# Altium footprint library con-weidmueller-sl35.PCBLIB: 184 footprints (part 4 of 12)
Each footprint in its own frame and in the unit in brackets; x right, y up, seen from the top. Pads: shape width x height; smd on the part's side, far side on the other; paste and mask are expansions set on the pad; w line width, h text height; cw(c..) or ccw(c..) is an arc to the next point about the centre after c.
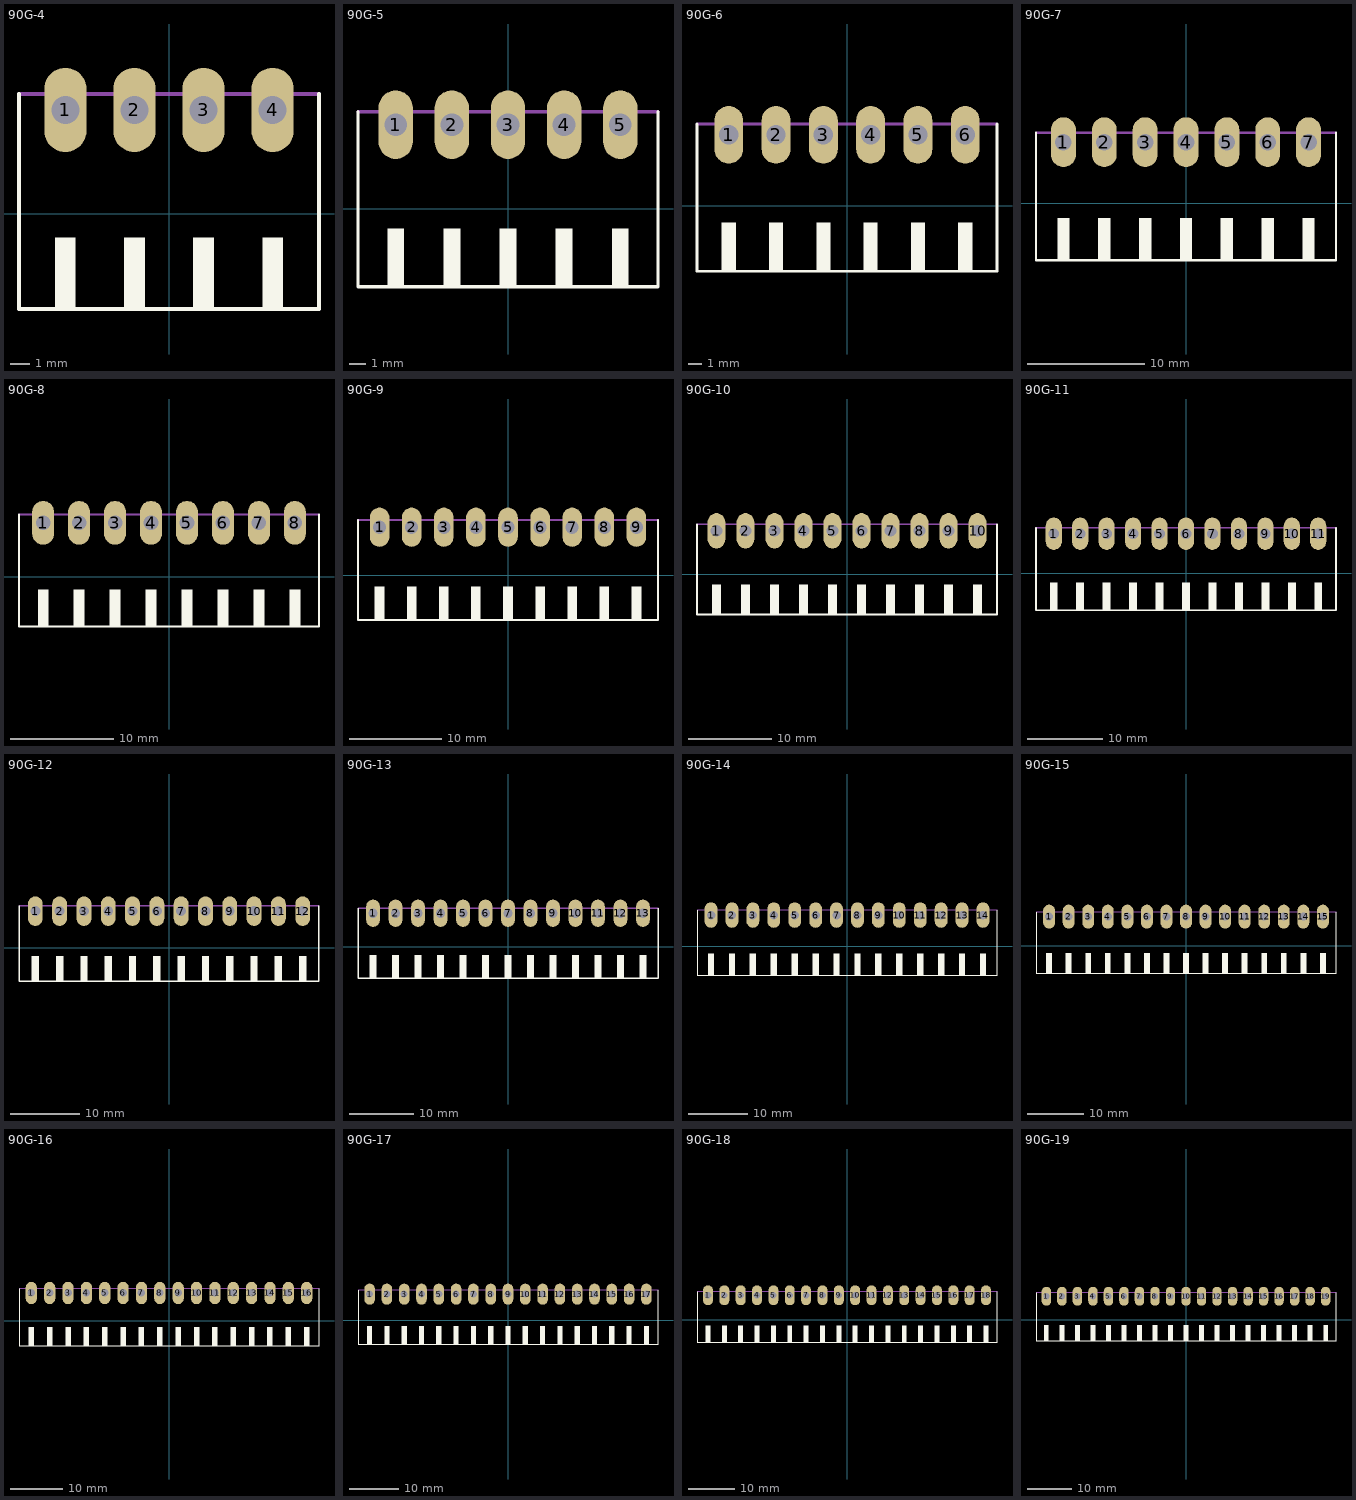
[diagram p3: the footprints below, top view; thin cyan lines are the x and y axes]

## 90G-4 [mil]
pads (4):
  oval 84x168 hole 56: 1(-206.69,206.69) 2(-68.9,206.69) 3(68.9,206.69) 4(206.69,206.69)
Top Overlay:
  rectangle: -227.36,-192.91 -186.02,-48.23
  rectangle: -89.57,-192.91 -48.23,-48.23
  rectangle: 48.23,-192.91 89.57,-48.23
  rectangle: 186.02,-192.91 227.36,-48.23
  lines w8: -299.21,238.19 -299.21,-190.94 299.21,-190.94 299.21,238.19
Mechanical 16:
  lines w8: -299.21,238.19 299.21,238.19

## 90G-5 [mil]
pads (5):
  oval 84x168 hole 56: 1(-275.59,206.69) 2(-137.8,206.69) 3(0,206.69) 4(137.8,206.69) 5(275.59,206.69)
Top Overlay:
  rectangle: -296.26,-192.91 -254.92,-48.23
  rectangle: -158.46,-192.91 -117.13,-48.23
  rectangle: -20.67,-192.91 20.67,-48.23
  rectangle: 117.13,-192.91 158.46,-48.23
  rectangle: 254.92,-192.91 296.26,-48.23
  lines w8: -368.11,238.19 -368.11,-190.94 368.11,-190.94 368.11,238.19
Mechanical 16:
  lines w8: -368.11,238.19 368.11,238.19

## 90G-6 [mil]
pads (6):
  oval 84x168 hole 56: 1(-344.49,206.69) 2(-206.69,206.69) 3(-68.9,206.69) 4(68.9,206.69) 5(206.69,206.69) 6(344.49,206.69)
Top Overlay:
  rectangle: -365.16,-192.91 -323.82,-48.23
  rectangle: -227.36,-192.91 -186.02,-48.23
  rectangle: -89.57,-192.91 -48.23,-48.23
  rectangle: 48.23,-192.91 89.57,-48.23
  rectangle: 186.02,-192.91 227.36,-48.23
  rectangle: 323.82,-192.91 365.16,-48.23
  lines w8: -437.01,238.19 -437.01,-190.94 437.01,-190.94 437.01,238.19
Mechanical 16:
  lines w8: -437.01,238.19 437.01,238.19

## 90G-7 [mil]
pads (7):
  oval 84x168 hole 56: 1(-413.39,206.69) 2(-275.59,206.69) 3(-137.8,206.69) 4(0,206.69) 5(137.8,206.69) 6(275.59,206.69) 7(413.39,206.69)
Top Overlay:
  rectangle: -434.06,-192.91 -392.72,-48.23
  rectangle: -296.26,-192.91 -254.92,-48.23
  rectangle: -158.46,-192.91 -117.13,-48.23
  rectangle: -20.67,-192.91 20.67,-48.23
  rectangle: 117.13,-192.91 158.46,-48.23
  rectangle: 254.92,-192.91 296.26,-48.23
  rectangle: 392.72,-192.91 434.06,-48.23
  lines w8: -505.91,238.19 -505.91,-190.94 505.91,-190.94 505.91,238.19
Mechanical 16:
  lines w8: -505.91,238.19 505.91,238.19

## 90G-8 [mil]
pads (8):
  oval 84x168 hole 56: 1(-482.28,206.69) 2(-344.49,206.69) 3(-206.69,206.69) 4(-68.9,206.69) 5(68.9,206.69) 6(206.69,206.69) 7(344.49,206.69) 8(482.28,206.69)
Top Overlay:
  rectangle: -502.95,-192.91 -461.61,-48.23
  rectangle: -365.16,-192.91 -323.82,-48.23
  rectangle: -227.36,-192.91 -186.02,-48.23
  rectangle: -89.57,-192.91 -48.23,-48.23
  rectangle: 48.23,-192.91 89.57,-48.23
  rectangle: 186.02,-192.91 227.36,-48.23
  rectangle: 323.82,-192.91 365.16,-48.23
  rectangle: 461.61,-192.91 502.95,-48.23
  lines w8: -574.8,238.19 -574.8,-190.94 574.8,-190.94 574.8,238.19
Mechanical 16:
  lines w8: -574.8,238.19 574.8,238.19

## 90G-9 [mil]
pads (9):
  oval 84x168 hole 56: 1(-551.18,206.69) 2(-413.39,206.69) 3(-275.59,206.69) 4(-137.8,206.69) 5(0,206.69) 6(137.8,206.69) 7(275.59,206.69) 8(413.39,206.69) 9(551.18,206.69)
Top Overlay:
  rectangle: -571.85,-192.91 -530.51,-48.23
  rectangle: -434.06,-192.91 -392.72,-48.23
  rectangle: -296.26,-192.91 -254.92,-48.23
  rectangle: -158.46,-192.91 -117.13,-48.23
  rectangle: -20.67,-192.91 20.67,-48.23
  rectangle: 117.13,-192.91 158.46,-48.23
  rectangle: 254.92,-192.91 296.26,-48.23
  rectangle: 392.72,-192.91 434.06,-48.23
  rectangle: 530.51,-192.91 571.85,-48.23
  lines w8: -643.7,238.19 -643.7,-190.94 643.7,-190.94 643.7,238.19
Mechanical 16:
  lines w8: -643.7,238.19 643.7,238.19

## 90G-10 [mil]
pads (10):
  oval 84x168 hole 56: 1(-620.08,206.69) 2(-482.28,206.69) 3(-344.49,206.69) 4(-206.69,206.69) 5(-68.9,206.69) 6(68.9,206.69) 7(206.69,206.69) 8(344.49,206.69) 9(482.28,206.69) 10(620.08,206.69)
Top Overlay:
  rectangle: -640.75,-192.91 -599.41,-48.23
  rectangle: -502.95,-192.91 -461.61,-48.23
  rectangle: -365.16,-192.91 -323.82,-48.23
  rectangle: -227.36,-192.91 -186.02,-48.23
  rectangle: -89.57,-192.91 -48.23,-48.23
  rectangle: 48.23,-192.91 89.57,-48.23
  rectangle: 186.02,-192.91 227.36,-48.23
  rectangle: 323.82,-192.91 365.16,-48.23
  rectangle: 461.61,-192.91 502.95,-48.23
  rectangle: 599.41,-192.91 640.75,-48.23
  lines w8: -712.6,238.19 -712.6,-190.94 712.6,-190.94 712.6,238.19
Mechanical 16:
  lines w8: -712.6,238.19 712.6,238.19

## 90G-11 [mil]
pads (11):
  oval 84x168 hole 56: 1(-688.98,206.69) 2(-551.18,206.69) 3(-413.39,206.69) 4(-275.59,206.69) 5(-137.8,206.69) 6(0,206.69) 7(137.8,206.69) 8(275.59,206.69) 9(413.39,206.69) 10(551.18,206.69) 11(688.98,206.69)
Top Overlay:
  rectangle: -709.65,-192.91 -668.31,-48.23
  rectangle: -571.85,-192.91 -530.51,-48.23
  rectangle: -434.06,-192.91 -392.72,-48.23
  rectangle: -296.26,-192.91 -254.92,-48.23
  rectangle: -158.46,-192.91 -117.13,-48.23
  rectangle: -20.67,-192.91 20.67,-48.23
  rectangle: 117.13,-192.91 158.46,-48.23
  rectangle: 254.92,-192.91 296.26,-48.23
  rectangle: 392.72,-192.91 434.06,-48.23
  rectangle: 530.51,-192.91 571.85,-48.23
  rectangle: 668.31,-192.91 709.65,-48.23
  lines w8: -781.5,238.19 -781.5,-190.94 781.5,-190.94 781.5,238.19
Mechanical 16:
  lines w8: -781.5,238.19 781.5,238.19

## 90G-12 [mil]
pads (12):
  oval 84x168 hole 56: 1(-757.87,206.69) 2(-620.08,206.69) 3(-482.28,206.69) 4(-344.49,206.69) 5(-206.69,206.69) 6(-68.9,206.69) 7(68.9,206.69) 8(206.69,206.69) 9(344.49,206.69) 10(482.28,206.69) 11(620.08,206.69) 12(757.87,206.69)
Top Overlay:
  rectangle: -778.54,-192.91 -737.2,-48.23
  rectangle: -640.75,-192.91 -599.41,-48.23
  rectangle: -502.95,-192.91 -461.61,-48.23
  rectangle: -365.16,-192.91 -323.82,-48.23
  rectangle: -227.36,-192.91 -186.02,-48.23
  rectangle: -89.57,-192.91 -48.23,-48.23
  rectangle: 48.23,-192.91 89.57,-48.23
  rectangle: 186.02,-192.91 227.36,-48.23
  rectangle: 323.82,-192.91 365.16,-48.23
  rectangle: 461.61,-192.91 502.95,-48.23
  rectangle: 599.41,-192.91 640.75,-48.23
  rectangle: 737.2,-192.91 778.54,-48.23
  lines w8: -850.39,238.19 -850.39,-190.94 850.39,-190.94 850.39,238.19
Mechanical 16:
  lines w8: -850.39,238.19 850.39,238.19

## 90G-13 [mil]
pads (13):
  oval 84x168 hole 56: 1(-826.77,206.69) 2(-688.98,206.69) 3(-551.18,206.69) 4(-413.39,206.69) 5(-275.59,206.69) 6(-137.8,206.69) 7(0,206.69) 8(137.8,206.69) 9(275.59,206.69) 10(413.39,206.69) 11(551.18,206.69) 12(688.98,206.69) 13(826.77,206.69)
Top Overlay:
  rectangle: -847.44,-192.91 -806.1,-48.23
  rectangle: -709.65,-192.91 -668.31,-48.23
  rectangle: -571.85,-192.91 -530.51,-48.23
  rectangle: -434.06,-192.91 -392.72,-48.23
  rectangle: -296.26,-192.91 -254.92,-48.23
  rectangle: -158.46,-192.91 -117.13,-48.23
  rectangle: -20.67,-192.91 20.67,-48.23
  rectangle: 117.13,-192.91 158.46,-48.23
  rectangle: 254.92,-192.91 296.26,-48.23
  rectangle: 392.72,-192.91 434.06,-48.23
  rectangle: 530.51,-192.91 571.85,-48.23
  rectangle: 668.31,-192.91 709.65,-48.23
  rectangle: 806.1,-192.91 847.44,-48.23
  lines w8: -919.29,238.19 -919.29,-190.94 919.29,-190.94 919.29,238.19
Mechanical 16:
  lines w8: -919.29,238.19 919.29,238.19

## 90G-14 [mil]
pads (14):
  oval 84x168 hole 56: 1(-895.67,206.69) 2(-757.87,206.69) 3(-620.08,206.69) 4(-482.28,206.69) 5(-344.49,206.69) 6(-206.69,206.69) 7(-68.9,206.69) 8(68.9,206.69) 9(206.69,206.69) 10(344.49,206.69) 11(482.28,206.69) 12(620.08,206.69) 13(757.87,206.69) 14(895.67,206.69)
Top Overlay:
  rectangle: -916.34,-192.91 -875,-48.23
  rectangle: -778.54,-192.91 -737.2,-48.23
  rectangle: -640.75,-192.91 -599.41,-48.23
  rectangle: -502.95,-192.91 -461.61,-48.23
  rectangle: -365.16,-192.91 -323.82,-48.23
  rectangle: -227.36,-192.91 -186.02,-48.23
  rectangle: -89.57,-192.91 -48.23,-48.23
  rectangle: 48.23,-192.91 89.57,-48.23
  rectangle: 186.02,-192.91 227.36,-48.23
  rectangle: 323.82,-192.91 365.16,-48.23
  rectangle: 461.61,-192.91 502.95,-48.23
  rectangle: 599.41,-192.91 640.75,-48.23
  rectangle: 737.2,-192.91 778.54,-48.23
  rectangle: 875,-192.91 916.34,-48.23
  lines w8: -988.19,238.19 -988.19,-190.94 988.19,-190.94 988.19,238.19
Mechanical 16:
  lines w8: -988.19,238.19 988.19,238.19

## 90G-15 [mil]
pads (15):
  oval 84x168 hole 56: 1(-964.57,206.69) 2(-826.77,206.69) 3(-688.98,206.69) 4(-551.18,206.69) 5(-413.39,206.69) 6(-275.59,206.69) 7(-137.8,206.69) 8(0,206.69) 9(137.8,206.69) 10(275.59,206.69) 11(413.39,206.69) 12(551.18,206.69) 13(688.98,206.69) 14(826.77,206.69) 15(964.57,206.69)
Top Overlay:
  rectangle: -985.24,-192.91 -943.9,-48.23
  rectangle: -847.44,-192.91 -806.1,-48.23
  rectangle: -709.65,-192.91 -668.31,-48.23
  rectangle: -571.85,-192.91 -530.51,-48.23
  rectangle: -434.06,-192.91 -392.72,-48.23
  rectangle: -296.26,-192.91 -254.92,-48.23
  rectangle: -158.46,-192.91 -117.13,-48.23
  rectangle: -20.67,-192.91 20.67,-48.23
  rectangle: 117.13,-192.91 158.46,-48.23
  rectangle: 254.92,-192.91 296.26,-48.23
  rectangle: 392.72,-192.91 434.06,-48.23
  rectangle: 530.51,-192.91 571.85,-48.23
  rectangle: 668.31,-192.91 709.65,-48.23
  rectangle: 806.1,-192.91 847.44,-48.23
  rectangle: 943.9,-192.91 985.24,-48.23
  lines w8: -1057.09,238.19 -1057.09,-190.94 1057.09,-190.94 1057.09,238.19
Mechanical 16:
  lines w8: -1057.09,238.19 1057.09,238.19

## 90G-16 [mil]
pads (16):
  oval 84x168 hole 56: 1(-1033.46,206.69) 2(-895.67,206.69) 3(-757.87,206.69) 4(-620.08,206.69) 5(-482.28,206.69) 6(-344.49,206.69) 7(-206.69,206.69) 8(-68.9,206.69) 9(68.9,206.69) 10(206.69,206.69) 11(344.49,206.69) 12(482.28,206.69) 13(620.08,206.69) 14(757.87,206.69) 15(895.67,206.69) 16(1033.46,206.69)
Top Overlay:
  rectangle: -1054.13,-192.91 -1012.8,-48.23
  rectangle: -916.34,-192.91 -875,-48.23
  rectangle: -778.54,-192.91 -737.2,-48.23
  rectangle: -640.75,-192.91 -599.41,-48.23
  rectangle: -502.95,-192.91 -461.61,-48.23
  rectangle: -365.16,-192.91 -323.82,-48.23
  rectangle: -227.36,-192.91 -186.02,-48.23
  rectangle: -89.57,-192.91 -48.23,-48.23
  rectangle: 48.23,-192.91 89.57,-48.23
  rectangle: 186.02,-192.91 227.36,-48.23
  rectangle: 323.82,-192.91 365.16,-48.23
  rectangle: 461.61,-192.91 502.95,-48.23
  rectangle: 599.41,-192.91 640.75,-48.23
  rectangle: 737.2,-192.91 778.54,-48.23
  rectangle: 875,-192.91 916.34,-48.23
  rectangle: 1012.8,-192.91 1054.13,-48.23
  lines w8: -1125.98,238.19 -1125.98,-190.94 1125.98,-190.94 1125.98,238.19
Mechanical 16:
  lines w8: -1125.98,238.19 1125.98,238.19

## 90G-17 [mil]
pads (17):
  oval 84x168 hole 56: 1(-1102.36,206.69) 2(-964.57,206.69) 3(-826.77,206.69) 4(-688.98,206.69) 5(-551.18,206.69) 6(-413.39,206.69) 7(-275.59,206.69) 8(-137.8,206.69) 9(0,206.69) 10(137.8,206.69) 11(275.59,206.69) 12(413.39,206.69) 13(551.18,206.69) 14(688.98,206.69) 15(826.77,206.69) 16(964.57,206.69) 17(1102.36,206.69)
Top Overlay:
  rectangle: -1123.03,-192.91 -1081.69,-48.23
  rectangle: -985.24,-192.91 -943.9,-48.23
  rectangle: -847.44,-192.91 -806.1,-48.23
  rectangle: -709.65,-192.91 -668.31,-48.23
  rectangle: -571.85,-192.91 -530.51,-48.23
  rectangle: -434.06,-192.91 -392.72,-48.23
  rectangle: -296.26,-192.91 -254.92,-48.23
  rectangle: -158.46,-192.91 -117.13,-48.23
  rectangle: -20.67,-192.91 20.67,-48.23
  rectangle: 117.13,-192.91 158.46,-48.23
  rectangle: 254.92,-192.91 296.26,-48.23
  rectangle: 392.72,-192.91 434.06,-48.23
  rectangle: 530.51,-192.91 571.85,-48.23
  rectangle: 668.31,-192.91 709.65,-48.23
  rectangle: 806.1,-192.91 847.44,-48.23
  rectangle: 943.9,-192.91 985.24,-48.23
  rectangle: 1081.69,-192.91 1123.03,-48.23
  lines w8: -1194.88,238.19 -1194.88,-190.94 1194.88,-190.94 1194.88,238.19
Mechanical 16:
  lines w8: -1194.88,238.19 1194.88,238.19

## 90G-18 [mil]
pads (18):
  oval 84x168 hole 56: 1(-1171.26,206.69) 2(-1033.46,206.69) 3(-895.67,206.69) 4(-757.87,206.69) 5(-620.08,206.69) 6(-482.28,206.69) 7(-344.49,206.69) 8(-206.69,206.69) 9(-68.9,206.69) 10(68.9,206.69) 11(206.69,206.69) 12(344.49,206.69) 13(482.28,206.69) 14(620.08,206.69) 15(757.87,206.69) 16(895.67,206.69) 17(1033.46,206.69) 18(1171.26,206.69)
Top Overlay:
  rectangle: -1191.93,-192.91 -1150.59,-48.23
  rectangle: -1054.13,-192.91 -1012.8,-48.23
  rectangle: -916.34,-192.91 -875,-48.23
  rectangle: -778.54,-192.91 -737.2,-48.23
  rectangle: -640.75,-192.91 -599.41,-48.23
  rectangle: -502.95,-192.91 -461.61,-48.23
  rectangle: -365.16,-192.91 -323.82,-48.23
  rectangle: -227.36,-192.91 -186.02,-48.23
  rectangle: -89.57,-192.91 -48.23,-48.23
  rectangle: 48.23,-192.91 89.57,-48.23
  rectangle: 186.02,-192.91 227.36,-48.23
  rectangle: 323.82,-192.91 365.16,-48.23
  rectangle: 461.61,-192.91 502.95,-48.23
  rectangle: 599.41,-192.91 640.75,-48.23
  rectangle: 737.2,-192.91 778.54,-48.23
  rectangle: 875,-192.91 916.34,-48.23
  rectangle: 1012.8,-192.91 1054.13,-48.23
  rectangle: 1150.59,-192.91 1191.93,-48.23
  lines w8: -1263.78,238.19 -1263.78,-190.94 1263.78,-190.94 1263.78,238.19
Mechanical 16:
  lines w8: -1263.78,238.19 1263.78,238.19

## 90G-19 [mil]
pads (19):
  oval 84x168 hole 56: 1(-1240.16,206.69) 2(-1102.36,206.69) 3(-964.57,206.69) 4(-826.77,206.69) 5(-688.98,206.69) 6(-551.18,206.69) 7(-413.39,206.69) 8(-275.59,206.69) 9(-137.8,206.69) 10(0,206.69) 11(137.8,206.69) 12(275.59,206.69) 13(413.39,206.69) 14(551.18,206.69) 15(688.98,206.69) 16(826.77,206.69) 17(964.57,206.69) 18(1102.36,206.69) 19(1240.16,206.69)
Top Overlay:
  rectangle: -1260.83,-192.91 -1219.49,-48.23
  rectangle: -1123.03,-192.91 -1081.69,-48.23
  rectangle: -985.24,-192.91 -943.9,-48.23
  rectangle: -847.44,-192.91 -806.1,-48.23
  rectangle: -709.65,-192.91 -668.31,-48.23
  rectangle: -571.85,-192.91 -530.51,-48.23
  rectangle: -434.06,-192.91 -392.72,-48.23
  rectangle: -296.26,-192.91 -254.92,-48.23
  rectangle: -158.46,-192.91 -117.13,-48.23
  rectangle: -20.67,-192.91 20.67,-48.23
  rectangle: 117.13,-192.91 158.46,-48.23
  rectangle: 254.92,-192.91 296.26,-48.23
  rectangle: 392.72,-192.91 434.06,-48.23
  rectangle: 530.51,-192.91 571.85,-48.23
  rectangle: 668.31,-192.91 709.65,-48.23
  rectangle: 806.1,-192.91 847.44,-48.23
  rectangle: 943.9,-192.91 985.24,-48.23
  rectangle: 1081.69,-192.91 1123.03,-48.23
  rectangle: 1219.49,-192.91 1260.83,-48.23
  lines w8: -1332.68,238.19 -1332.68,-190.94 1332.68,-190.94 1332.68,238.19
Mechanical 16:
  lines w8: -1332.68,238.19 1332.68,238.19